# Altium footprint library CAPC5763X620.PcbLib: 3 footprints
Each footprint in its own frame and in the unit in brackets; x right, y up, seen from the top. Pads: shape width x height; smd on the part's side, far side on the other; paste and mask are expansions set on the pad; w line width, h text height; cw(c..) or ccw(c..) is an arc to the next point about the centre after c.
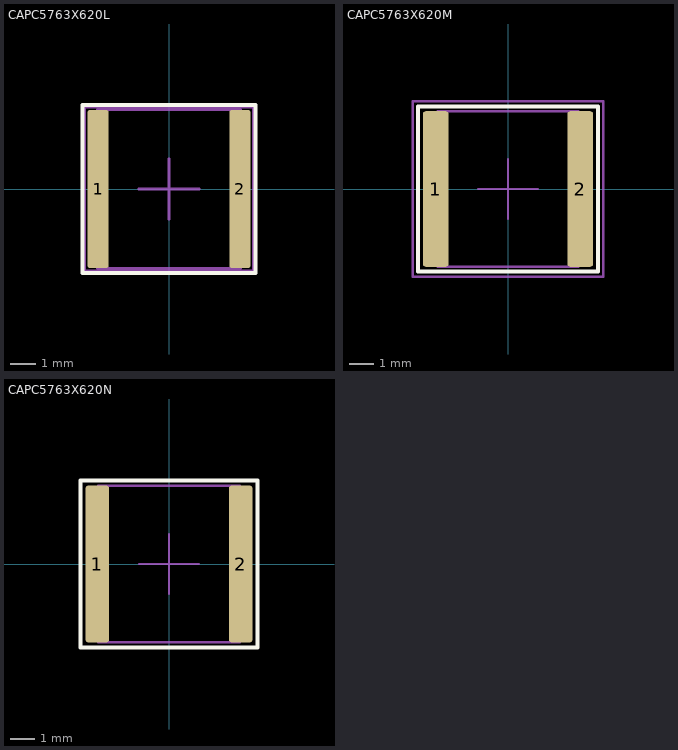
[diagram p0: the footprints below, top view; thin cyan lines are the x and y axes]

## CAPC5763X620L [mm] "Capacitors, Chip, Non-polarized"
height 6.2
pads (2):
  rrect25% 0.85x6.3 smd: 1(-2.825,0) 2(2.825,0)
Top Overlay:
  lines w0.16: -3.45,-3.35 3.45,-3.35 3.45,3.35 -3.45,3.35 -3.45,-3.35
Top Component Center:
  lines w0.1: -1.2,0 1.2,0 ; 0,-1.2 0,1.2
Top Courtyard:
  lines w0.1: -3.35,-3.25 3.35,-3.25 3.35,3.25 -3.35,3.25 -3.35,-3.25
Top Assembly:
  lines w0.1: -2.85,-3.15 2.85,-3.15 2.85,3.15 -2.85,3.15 -2.85,-3.15
  text ".Designator" at 0,0 h1
3D body "CAPC5763X620L.STEP": height 6.2, standoff 0, extent -2.85,-3.15 2.85,3.15

## CAPC5763X620M [mm] "Capacitors, Chip, Non-polarized"
height 6.2
pads (2):
  rrect24% 1.05x6.3 smd: 1(-2.925,0) 2(2.925,0)
Top Overlay:
  lines w0.16: -3.65,-3.35 3.65,-3.35 3.65,3.35 -3.65,3.35 -3.65,-3.35
Top Component Center:
  lines w0.1: -1.2,0 1.2,0 ; 0,-1.2 0,1.2
Top Courtyard:
  lines w0.1: -3.85,-3.55 3.85,-3.55 3.85,3.55 -3.85,3.55 -3.85,-3.55
Top Assembly:
  lines w0.1: -2.85,-3.15 2.85,-3.15 2.85,3.15 -2.85,3.15 -2.85,-3.15
  text ".Designator" at 0,0 h1
3D body "CAPC5763X620M.STEP": height 6.2, standoff 0, extent -2.85,-3.15 2.85,3.15

## CAPC5763X620N [mm] "Capacitors, Chip, Non-polarized"
height 6.2
pads (2):
  rrect25% 0.95x6.3 smd: 1(-2.875,0) 2(2.875,0)
Top Overlay:
  lines w0.16: -3.55,-3.35 3.55,-3.35 3.55,3.35 -3.55,3.35 -3.55,-3.35
Top Component Center:
  lines w0.1: -1.2,0 1.2,0 ; 0,-1.2 0,1.2
Top Courtyard:
  lines w0.1: -3.55,-3.35 3.55,-3.35 3.55,3.35 -3.55,3.35 -3.55,-3.35
Top Assembly:
  lines w0.1: -2.85,-3.15 2.85,-3.15 2.85,3.15 -2.85,3.15 -2.85,-3.15
  text ".Designator" at 0,0 h1
3D body "CAPC5763X620N.STEP": height 6.2, standoff 0, extent -2.85,-3.15 2.85,3.15